# EAGLE library part WE-SL3_744253... (library Wurth_Elektronik_Passive_rev15e)
SMD Common Mode Line Filter WE-SL3 - Small size - Low Profile, only 2.5 mm - High Impedance tp to 5000 ohm - High Current up to 700mA - Low leakage inductance - USB - CAN - Firewire - Data Lines - Power Lines <http://katalog.we-online.de/media/images/eisos/IndSL3_pf2.jpg> Details see: http://katalog.we-online.de/en/pbs/WE-SL3? Updated by Dan Xu 2014-07-11 2014 (C) Würth Elektronik
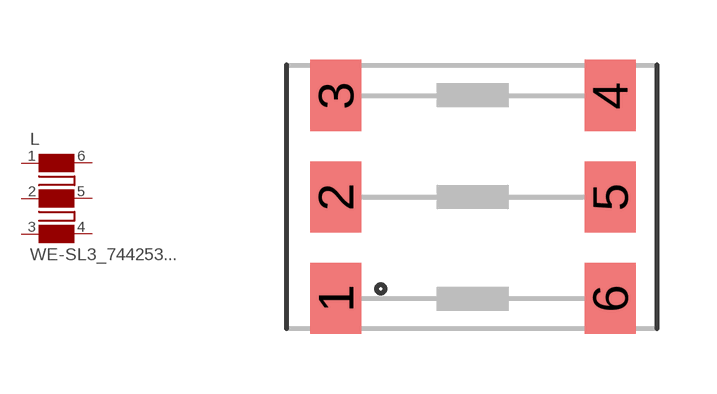
[diagram p28: symbol with the pads of WE-SL3_744253...; footprint WE-SL3_744253...]

Designator prefix L

## WE-SL3_744253..._744252XXX  [WE-SL3_744253...]
1  1  pas
2  2  pas
3  3  pas
4  4  pas
5  5  pas
6  6  pas

## Footprint WE-SL3_744253... (pad centres in mm)
SMD Common-Mode Line Filter WE-SL3
smd 1.27 x 1.78: 1 -3.43,-2.54; 2 -3.43,0; 3 -3.43,2.54; 4 3.43,2.54; 5 3.43,0; 6 3.43,-2.54